# Altium footprint library 电位器.PcbLib: 35 footprints (part 3 of 3)
Each footprint in its own frame and in the unit in brackets; x right, y up, seen from the top. Pads: shape width x height; smd on the part's side, far side on the other; paste and mask are expansions set on the pad; w line width, h text height; cw(c..) or ccw(c..) is an arc to the next point about the centre after c.
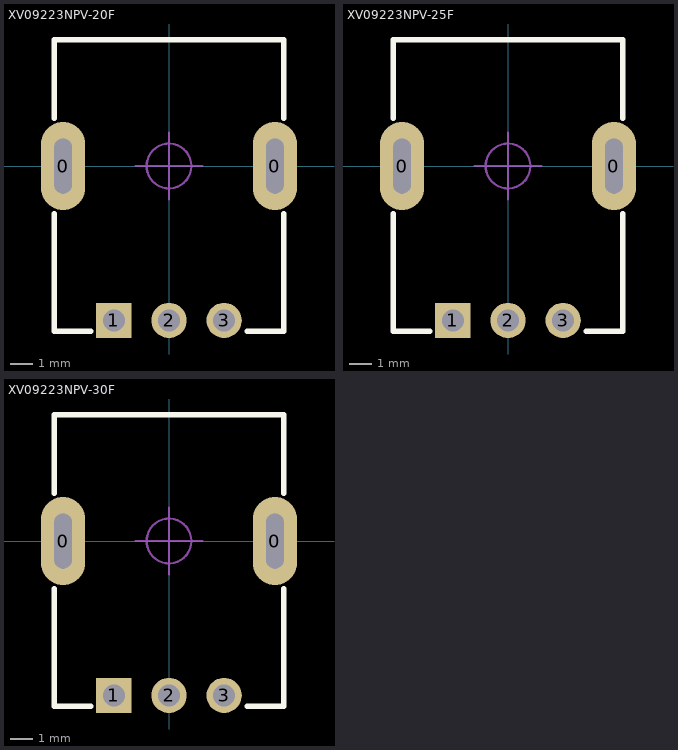
[diagram p2: the footprints below, top view; thin cyan lines are the x and y axes]

## XV09223NPV-20F [mm] "长9.85mm，宽11.55mm，高20mm"
pads (5):
  oval 2x4 hole 0.8 slot 2.5 at 90 deg: 0(-4.8,0) 0(4.8,0)
  rect 1.6x1.6 hole 1: 1(-2.5,-7)
  round 1.6 hole 1: 2(0,-7) 3(2.5,-7)
Top Overlay:
  lines w0.254: -5.207,-2.159 -5.207,-7.493 -3.556,-7.493 ; -5.207,2.159 -5.207,5.715 5.207,5.715 5.207,2.159 ; 3.556,-7.493 5.207,-7.493 5.207,-2.159
Mechanical 15:
  circle w0.1: c0,0 r1.016
  lines w0.1: -1.524,0 1.524,0 ; 0,-1.524 0,1.524
3D body "XV09223NPV-20F.STEP": height 20, standoff -3.8, extent -4.925,-7.15 4.925,5.5

## XV09223NPV-25F [mm] "长9.85mm，宽11.55mm，高25mm"
pads (5):
  oval 2x4 hole 0.8 slot 2.5 at 90 deg: 0(-4.8,0) 0(4.8,0)
  rect 1.6x1.6 hole 1: 1(-2.5,-7)
  round 1.6 hole 1: 2(0,-7) 3(2.5,-7)
Top Overlay:
  lines w0.254: -5.207,-2.159 -5.207,-7.493 -3.556,-7.493 ; -5.207,2.159 -5.207,5.715 5.207,5.715 5.207,2.159 ; 3.556,-7.493 5.207,-7.493 5.207,-2.159
Mechanical 15:
  circle w0.1: c0,0 r1.016
  lines w0.1: -1.524,0 1.524,0 ; 0,-1.524 0,1.524
3D body "XV09223NPV-25F.STEP": height 25, standoff -3.8, extent -4.925,-7.15 4.925,5.5

## XV09223NPV-30F [mm] "长9.85mm，宽11.55mm，高30mm"
pads (5):
  oval 2x4 hole 0.8 slot 2.5 at 90 deg: 0(-4.8,0) 0(4.8,0)
  rect 1.6x1.6 hole 1: 1(-2.5,-7)
  round 1.6 hole 1: 2(0,-7) 3(2.5,-7)
Top Overlay:
  lines w0.254: -5.207,-2.159 -5.207,-7.493 -3.556,-7.493 ; -5.207,2.159 -5.207,5.715 5.207,5.715 5.207,2.159 ; 3.556,-7.493 5.207,-7.493 5.207,-2.159
Mechanical 15:
  circle w0.1: c0,0 r1.016
  lines w0.1: -1.524,0 1.524,0 ; 0,-1.524 0,1.524
3D body "XV09223NPV-30F.STEP": height 30, standoff -3.8, extent -4.925,-7.15 4.925,5.5